# EAGLE library part DOGL128-6 (library Display)
Electronic Assembly DOGL128 display series.
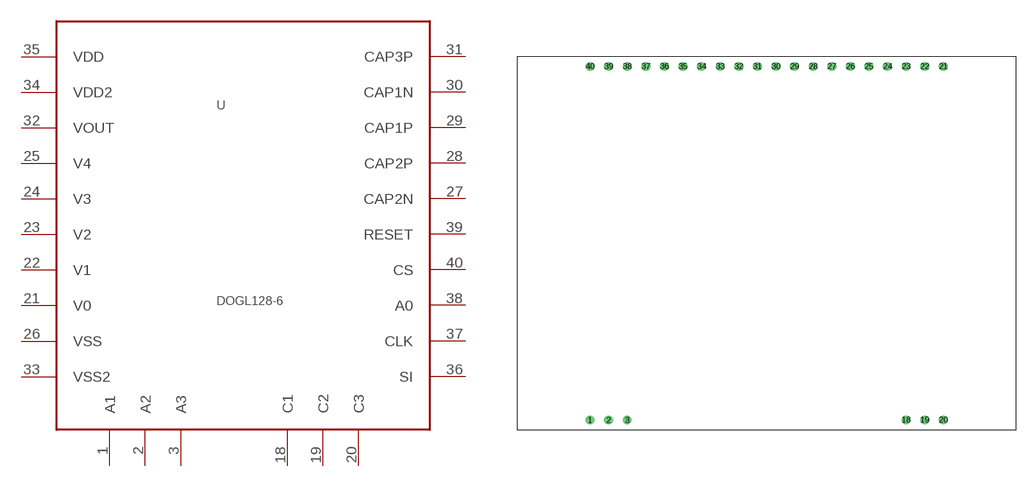
[diagram p0: symbol with the pads of DOGL128; footprint DOGL128]

Designator prefix -

## DOGL128-6DOGL128, DOGL128-6EADOGL128 (REICHEL: EA DOGL128W-6)  [DOGL128]
1  A1  in
2  A2  in
3  A3  in
18  C1  out
19  C2  out
20  C3  out
21  V0  pas
22  V1  pas
23  V2  pas
24  V3  pas
25  V4  pas
26  VSS  pwr
27  CAP2N  pas
28  CAP2P  pas
29  CAP1P  pas
30  CAP1N  pas
31  CAP3P  pas
32  VOUT  pwr
33  VSS2  pwr
34  VDD2  pwr
35  VDD  pwr
36  SI  in
37  CLK  in
38  A0  in
39  RESET  in
40  CS  in

## Footprint DOGL128 (pad centres in mm)
EA DOGL 128-6
drill 0.7: 1 -24.13,-24.13; 2 -21.59,-24.13; 3 -19.05,-24.13; 18 19.05,-24.13; 19 21.59,-24.13; 20 24.13,-24.13; 21 24.13,24.13; 22 21.59,24.13; 23 19.05,24.13; 24 16.51,24.13; 25 13.97,24.13; 26 11.43,24.13; 27 8.89,24.13; 28 6.35,24.13; 29 3.81,24.13; 30 1.27,24.13; 31 -1.27,24.13; 32 -3.81,24.13; 33 -6.35,24.13; 34 -8.89,24.13; 35 -11.43,24.13; 36 -13.97,24.13; 37 -16.51,24.13; 38 -19.05,24.13; 39 -21.59,24.13; 40 -24.13,24.13